# Altium schematic symbol library RES0402.SchLib: 1 symbol
Pins are listed as number, name and electrical type; pins without a type are passive.

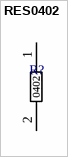
[diagram p0: symbol RES0402]

## RES0402
designator R?  (value not drawn)
footprint RES0402
pins: 1, 2
text: 0402